# Altium footprint library TO-92-3_L4.9-W3.7-P1.27-L.PcbLib: 1 footprints
Each footprint in its own frame and in the unit in brackets; x right, y up, seen from the top. Pads: shape width x height; smd on the part's side, far side on the other; paste and mask are expansions set on the pad; w line width, h text height; cw(c..) or ccw(c..) is an arc to the next point about the centre after c.
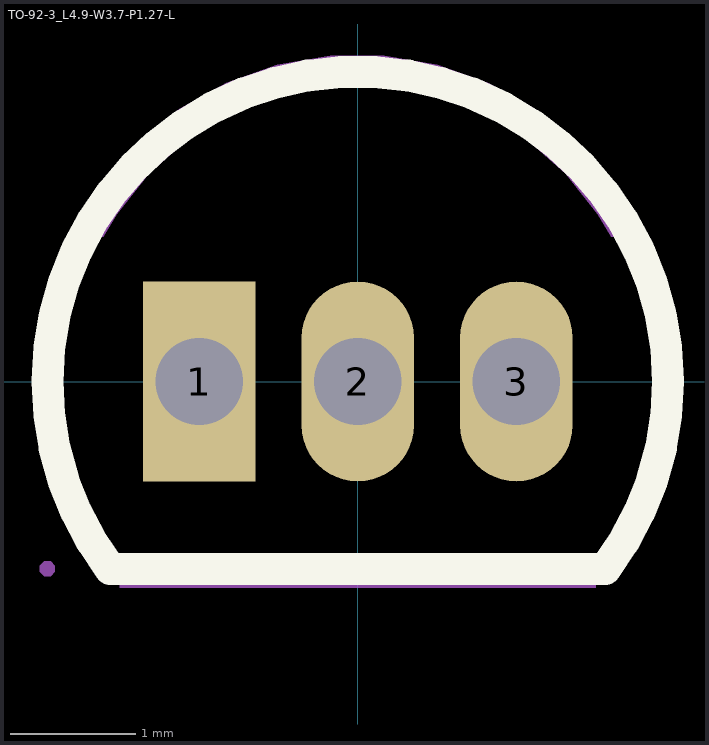
[diagram p0: the footprint, top view; thin cyan lines are the x and y axes]

## TO-92-3_L4.9-W3.7-P1.27-L [mm]
pads (3):
  rect 0.9x1.6 hole 0.7: 1(-1.27,0)
  oval 0.9x1.6 hole 0.7: 2(0,0) 3(1.27,0)
Top Overlay:
  lines w0.254: -1.981,-1.501 cw(c0,-0.003) 1.981,-1.501 ; -1.98,-1.5 1.98,-1.5
Mechanical 6:
  region: -2.29,1.16 -2.036,1.16 -1.931,1.339 -1.674,1.664 -1.363,1.938 -1.007,2.152 -0.619,2.299 -0.211,2.373 0.203,2.373 0.611,2.299 0.999,2.152 1.355,1.938 1.666,1.664 1.923,1.339 2.028,1.16 2.282,1.16 2.155,1.414 2.041,1.596 1.754,1.917 1.418,2.185 1.041,2.393 0.635,2.535 0.211,2.607 -0.219,2.607 -0.643,2.535 -1.049,2.393 -1.426,2.185 -1.762,1.917 -2.049,1.596 -2.163,1.414
  region: -1.905,-1.397 1.905,-1.397 1.905,-1.651 -1.905,-1.651
Mechanical 15:
  region: 1.035,-0.22 1.035,0.22 1.505,0.22 1.505,-0.22
  region: -0.235,-0.22 -0.235,0.22 0.235,0.22 0.235,-0.22
  region: -1.505,-0.22 -1.505,0.22 -1.035,0.22 -1.035,-0.22
  region: -2.424,-1.5 -2.424,-1.525 -2.459,-1.56 -2.509,-1.56 -2.544,-1.525 -2.544,-1.5 -2.544,-1.475 -2.509,-1.44 -2.459,-1.44 -2.424,-1.475 -2.424,-1.5
  lines w0.051: -2.484,0 ccw(c-2.484,0.003) -2.481,0.003 -2.481,0.124 cw(c-0.127,0.124) -0.127,2.478 0.124,2.478 cw(c0.124,0.118) 2.484,0.118 2.484,0 2.456,-0.397 2.342,-0.795 2.189,-1.158 1.98,-1.5 -1.98,-1.5 -2.181,-1.156 -2.265,-0.985 -2.34,-0.791 -2.399,-0.598 -2.443,-0.405 -2.466,-0.207 -2.484,0